# Altium footprint library 220AMA16R.PcbLib: 1 footprints
Each footprint in its own frame and in the unit in brackets; x right, y up, seen from the top. Pads: shape width x height; smd on the part's side, far side on the other; paste and mask are expansions set on the pad; w line width, h text height; cw(c..) or ccw(c..) is an arc to the next point about the centre after c.
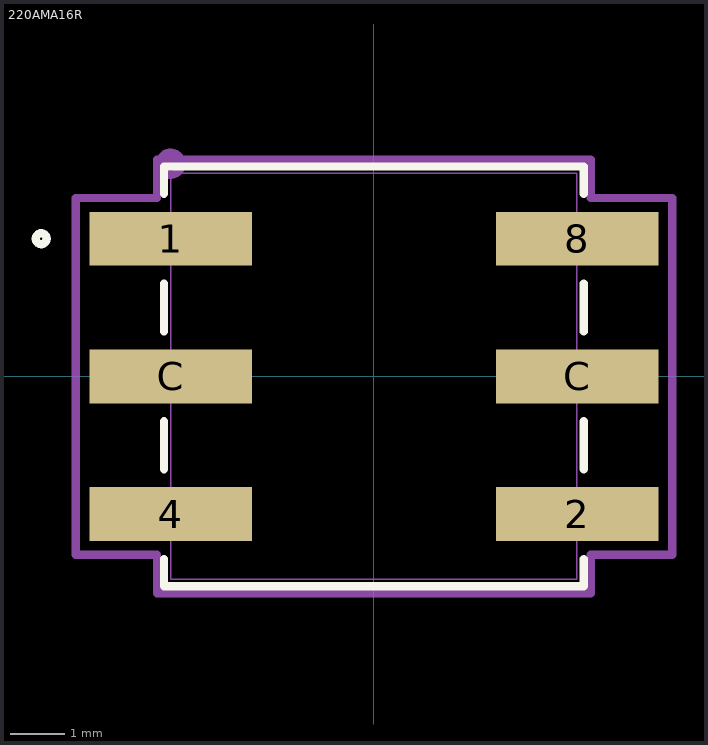
[diagram p0: the footprint, top view; thin cyan lines are the x and y axes]

## 220AMA16R [mil]
pads (6):
  rect 118x39 smd paste+0 mask+0: 1(-147.64,100) 2(147.64,-100) 4(-147.64,-100) 8(147.64,100) C(-147.64,0) C(147.64,0)
Top Overlay:
  circle w6: c-241.64,100 r3.94
  lines w6: -152.5,-132.6 -152.5,-152.5 152.5,-152.5 152.5,-132.6 ; -152.5,-67.4 -152.5,-32.6 ; -152.5,32.6 -152.5,67.4 ; -152.5,132.6 -152.5,152.5 152.5,152.5 152.5,132.6 ; 152.5,-67.4 152.5,-32.6 ; 152.5,32.6 152.5,67.4
Top 3D Body:
  circle w6: c-147.64,154.5 r8
  lines w1: -147.64,-100 -147.5,-100 -147.64,-100 ; -147.64,0 -147.5,0 -147.64,0 ; -147.64,100 -147.5,100 -147.64,100 ; -147.5,-147.5 -147.5,147.5 147.5,147.5 147.5,-147.5 -147.5,-147.5 ; 147.5,-100 147.64,-100 147.5,-100 ; 147.5,0 147.64,0 147.5,0 ; 147.5,100 147.64,100 147.5,100
Top Courtyard:
  lines w6: -216.64,-129.5 -157.5,-129.5 -157.5,-157.5 157.5,-157.5 157.5,-129.5 216.64,-129.5 216.64,129.5 157.5,129.5 157.5,157.5 -157.5,157.5 -157.5,129.5 -216.64,129.5 -216.64,-129.5
3D body "220AMA16R.STEP": height 149.61, standoff 0.01, extent -196.85,-141.73 196.85,141.73